# EAGLE library part IPL1-106-01-L-D-K (library Backplane_Dist_Logic_Connector)
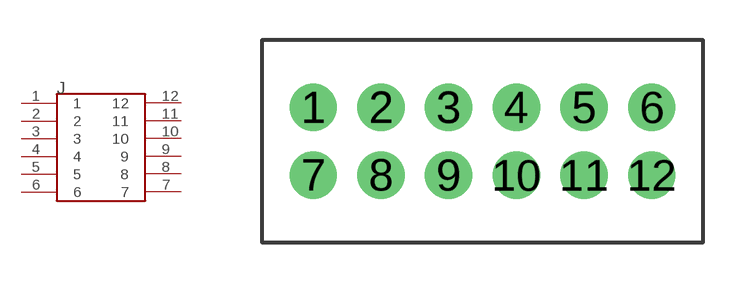
[diagram p1: symbol with the pads of IPL1-106-01-L-D-K; footprint IPL1-106-01-L-D-K]

Designator prefix J

## IPL1-106-01-L-D-K  [IPL1-106-01-L-D-K]
1  1
2  2
3  3
4  4
5  5
6  6
7  7
8  8
9  9
10  10
11  11
12  12

## Footprint IPL1-106-01-L-D-K (pad centres in mm)
drill 1.016 pad 1.778: 1 0,0; 2 2.54,0; 3 5.08,0; 4 7.62,0; 5 10.16,0; 6 12.7,0; 7 0,-2.54; 8 2.54,-2.54; 9 5.08,-2.54; 10 7.62,-2.54; 11 10.16,-2.54; 12 12.7,-2.54